# EAGLE library part JST-PH-8 (library Tilmann)
8 pin PH JST connector Partnr: C273136 Datasheet: Link <https://datasheet.lcsc.com/lcsc/2010160535_CJT-Changjiang-Connectors-A2008WR-S-8P_C273136.pdf>
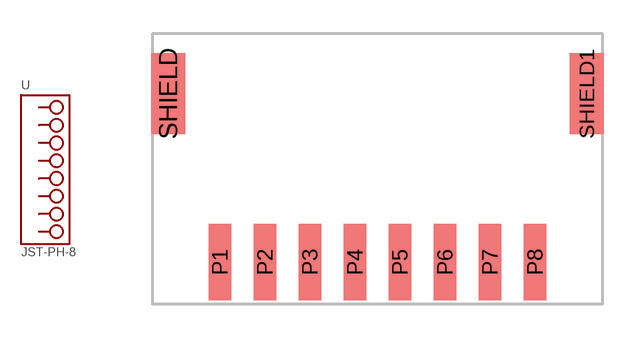
[diagram p10: symbol with the pads of JST-PH-8; footprint JST-PH-8]

Designator prefix -

## JST-PH-8 (PTRNR: C273136)  [JST-PH-8]
P1  1
P2  2
P3  3
P4  4
P5  5
P6  6
P7  7
P8  8

## Footprint JST-PH-8 (pad centres in mm)
smd 1 x 3.4: P1 -7,-5.15; P2 -5,-5.15; P3 -3,-5.15; P4 -1,-5.15; P5 1,-5.15; P6 3,-5.15; P7 5,-5.15; P8 7,-5.15
smd 1.5 x 3.6: SHIELD -9.3,2.35; SHIELD1 9.3,2.35